# Altium schematic symbol library PTSAHT120624V050.SchLib: 1 symbol
Pins are listed as number, name and electrical type; pins without a type are passive.

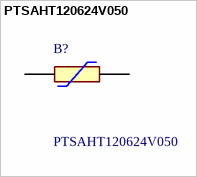
[diagram p0: symbol PTSAHT120624V050]

## PTSAHT120624V050
designator B?
Resettable Fuses - PPTC PTSAHT1206 0.5A, 24V; Manufacturer_Name: Eaton; Geometry.Height: 1.46mm; Mouser Part Number: 504-PTSAHT120624V050; Mouser Price/Stock: https://www.mouser.co.uk/ProductDetail/Bussmann-Eaton/PTSAHT120624V050?qs=aP1CjGhiNiFayTdxan91aA%3D%3D; Manufacturer_Part_Number: PTSAHT120624V050; Datasheet Link: https://www.eaton.com/content/dam/eaton/products/electronic-components/resources/data-sheet/eaton-ptsaht1206-automotive-surface-mount-resettable-fuse-data-sheet-elx1045-en.pdf
footprint PTSAHT120624V050
pins: 1, 2